# Altium integrated library connector_lib.IntLib: 1 symbol
Pins are listed as number, name and electrical type; pins without a type are passive.

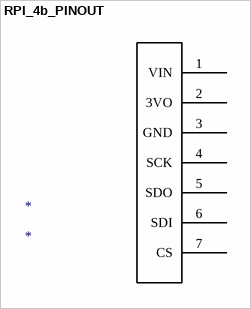
[diagram p0: symbol RPI_4b_PINOUT]

## RPI_4b_PINOUT
designator *
footprint PCBComponent_1
pins: 1 VIN, 2 3VO, 3 GND, 4 SCK, 5 SDO, 6 SDI, 7 CS